# EAGLE library part FLIPFLOP_D-TYPE_2CH (library AmandaEagleLibrary)
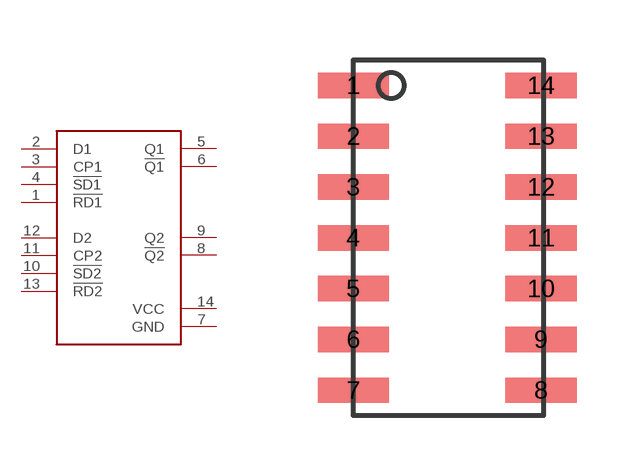
[diagram p8: symbol with the pads of 14-SOIC; footprint 14-SOIC]

Designator prefix -

## FLIPFLOP_D-TYPE_2CH  [14-SOIC]
1  !RD1
2  D1
3  CP1
4  !SD1
5  Q1
6  !Q1
7  GND
8  !Q2
9  Q2
10  !SD2
11  CP2
12  D2
13  !RD2
14  VCC

## Footprint 14-SOIC (pad centres in mm)
smd 1.778 x 0.635: 1 -2.223,3.81; 2 -2.223,2.54; 3 -2.223,1.27; 4 -2.223,0; 5 -2.223,-1.27; 6 -2.223,-2.54; 7 -2.223,-3.81; 8 2.477,-3.81; 9 2.477,-2.54; 10 2.477,-1.27; 11 2.477,0; 12 2.477,1.27; 13 2.477,2.54; 14 2.477,3.81